# EAGLE library part UM232R (library AIC_Custom)
FTDI UM232R USB Module
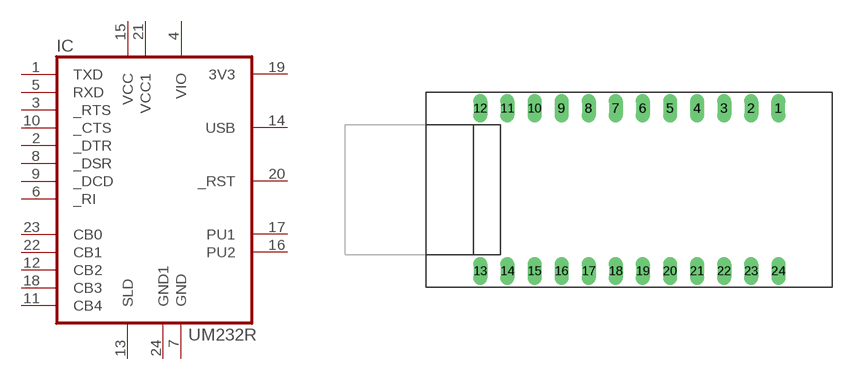
[diagram p13: symbol with the pads of UM232R; footprint UM232R]

Designator prefix IC

## UM232RR  [UM232R]
1  TXD
2  _DTR
3  _RTS
4  VIO
5  RXD
6  _RI
7  GND  pwr
8  _DSR
9  _DCD
10  _CTS
11  CB4
12  CB2
13  SLD
14  USB
15  VCC  pwr
16  PU2
17  PU1
18  CB3
19  3V3
20  _RST
21  VCC1  pwr
22  CB1
23  CB0
24  GND1  pwr

## Footprint UM232R (pad centres in mm)
UM232R FTDI Module USB connector protrudes 7.5mm (0.3") from the LH edge, shown on tDocu layer 51.
drill 0.813 long: 1 13.97,7.62; 2 11.43,7.62; 3 8.89,7.62; 4 6.35,7.62; 5 3.81,7.62; 6 1.27,7.62; 7 -1.27,7.62; 8 -3.81,7.62; 9 -6.35,7.62; 10 -8.89,7.62; 11 -11.43,7.62; 12 -13.97,7.62; 13 -13.97,-7.62; 14 -11.43,-7.62; 15 -8.89,-7.62; 16 -6.35,-7.62; 17 -3.81,-7.62; 18 -1.27,-7.62; 19 1.27,-7.62; 20 3.81,-7.62; 21 6.35,-7.62; 22 8.89,-7.62; 23 11.43,-7.62; 24 13.97,-7.62